# Altium footprint library Drosel.PcbLib: 92 footprints (part 1 of 6)
Each footprint in its own frame and in the unit in brackets; x right, y up, seen from the top. Pads: shape width x height; smd on the part's side, far side on the other; paste and mask are expansions set on the pad; w line width, h text height; cw(c..) or ccw(c..) is an arc to the next point about the centre after c.
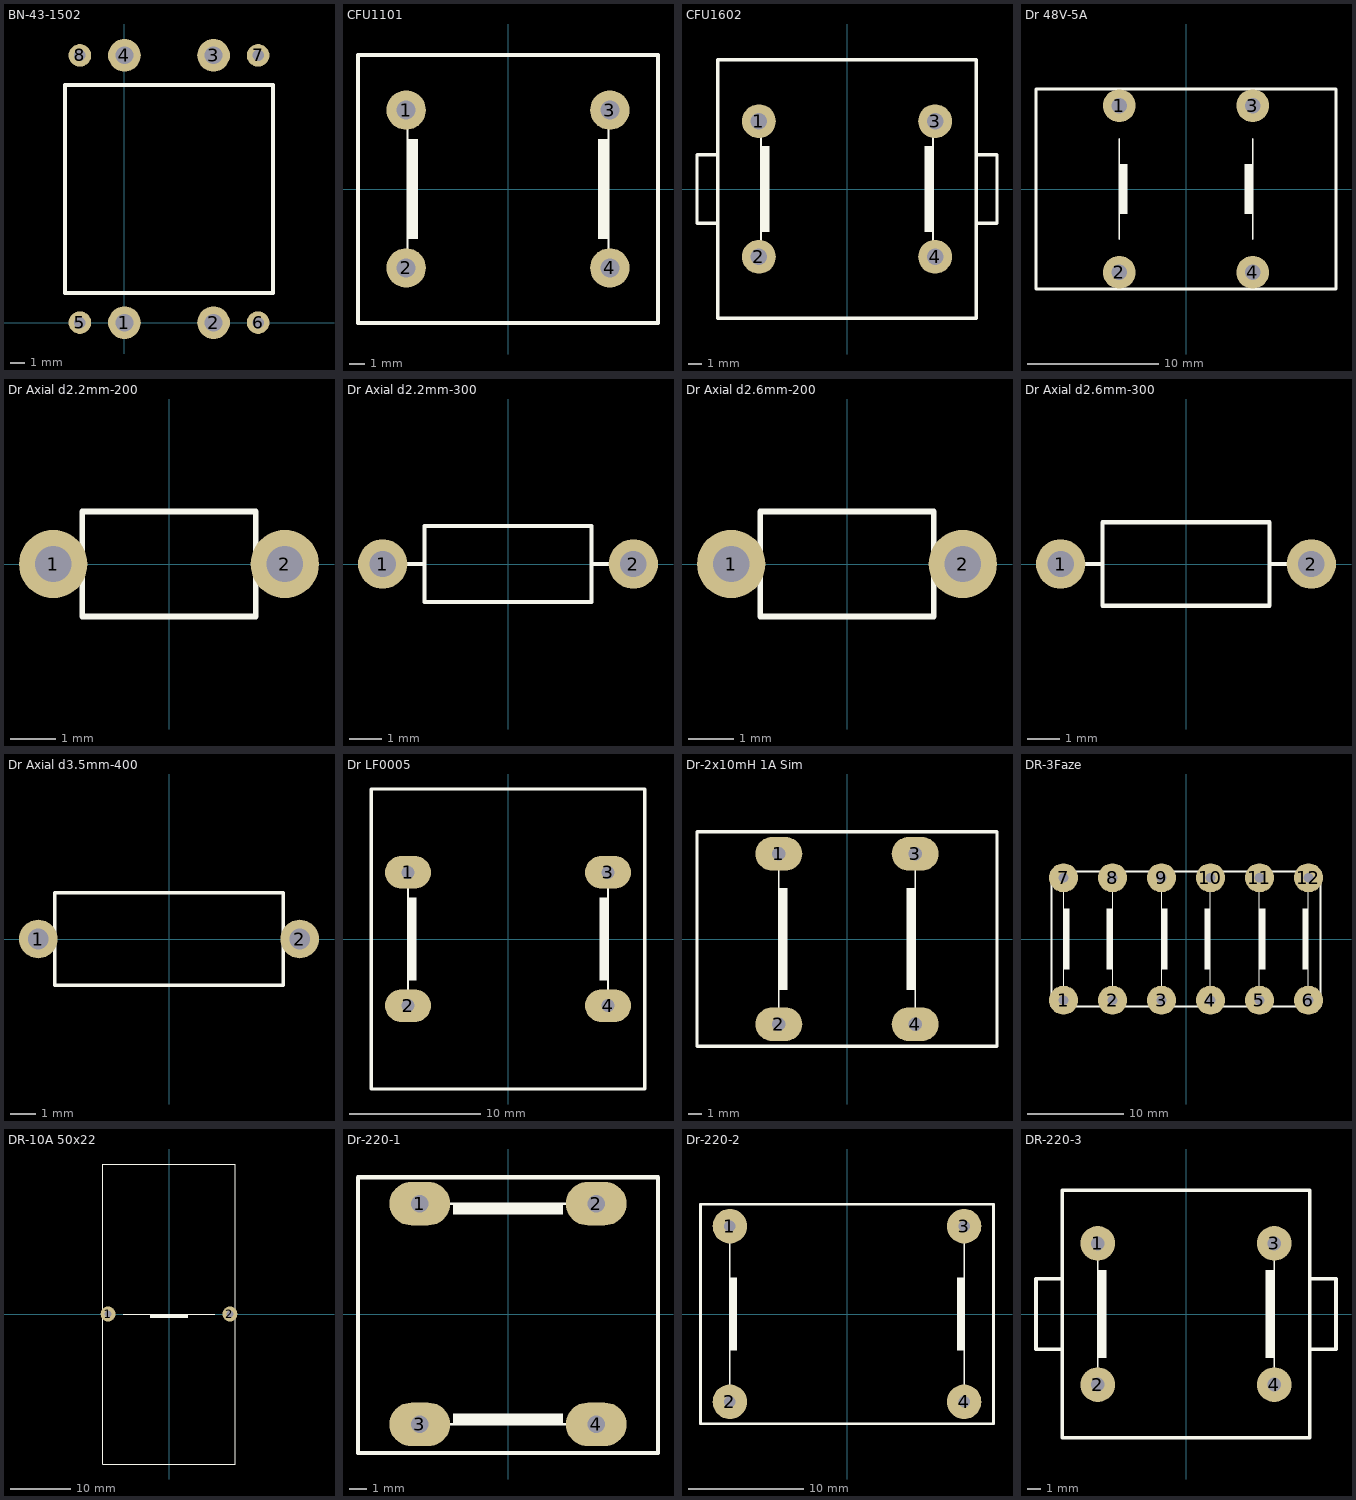
[diagram p0: the footprints below, top view; thin cyan lines are the x and y axes]

## BN-43-1502 [mm]
height 10
pads (8):
  round 2.2 hole 1.2: 1(0,0) 2(6,0) 3(6,18) 4(0,18)
  round 1.524 hole 0.762: 5(-3,0) 6(9,0) 7(9,18) 8(-3,18)
Top Overlay:
  lines w0.254: -4,2 -4,16 10,16 10,2 -4,2

## CFU1101 [mm]
pads (4):
  round 2.5 hole 1.2: 1(-6.45,5) 2(-6.45,-5) 3(6.45,5) 4(6.45,-5)
Top Overlay:
  region: 5.715,3.175 5.715,-3.175 6.35,-3.175 6.35,3.175
  region: -5.715,-3.175 -5.715,3.175 -6.35,3.175 -6.35,-3.175
  lines w0.127: -6.35,-5.08 -6.35,5.08 ; 6.35,-5.08 6.35,5.08
  lines w0.254: -9.5,-8.5 -9.5,8.5 9.5,8.5 9.5,-8.5 -9.5,-8.5

## CFU1602 [mm]
pads (4):
  round 2.5 hole 1.2: 1(-6.5,5) 2(-6.5,-5) 3(6.5,5) 4(6.5,-5)
Top Overlay:
  region: 5.715,3.175 5.715,-3.175 6.35,-3.175 6.35,3.175
  region: -5.715,-3.175 -5.715,3.175 -6.35,3.175 -6.35,-3.175
  lines w0.127: -6.35,-5.08 -6.35,5.08 ; 6.35,-5.08 6.35,5.08
  lines w0.254: -9.525,-2.54 -11.063,-2.54 -11.063,2.54 -9.525,2.54 ; 9.525,-2.54 11.062,-2.54 11.062,2.54 9.525,2.54 ; -9.525,-9.525 -9.525,9.525 9.525,9.525 9.525,-9.525 -9.525,-9.525
3D body: height 27.18, standoff -3.6, extent -11.062,-9.5 11.063,9.5

## Dr 48V-5A [mm]
pads (4):
  round 2.5 hole 1.2: 1(-5.08,6.35) 2(-5.08,-6.35) 3(5.08,6.35) 4(5.08,-6.35)
Top Overlay:
  region: 4.445,1.905 4.445,-1.905 5.08,-1.905 5.08,1.905
  region: -4.445,-1.905 -4.445,1.905 -5.08,1.905 -5.08,-1.905
  lines w0.127: -5.08,-3.81 -5.08,3.81 ; 5.08,-3.81 5.08,3.81
  lines w0.254: -11.43,-7.62 11.43,-7.62 11.43,7.62 -11.43,7.62 -11.43,-7.62
3D body: height 9, standoff 0, extent -11.441,-7.631 11.441,7.631
3D body: height 24, standoff 0, extent -11.43,-5.588 11.43,5.588

## Dr Axial d2.2mm-200 [mm]
pads (2):
  round 1.5 hole 0.8: 1(-2.54,0) 2(2.54,0)
Top Overlay:
  lines w0.127: -2.54,0 -1.905,0 ; 1.905,0 2.54,0 ; -1.905,-1.153 1.905,-1.153 1.905,1.153 -1.905,1.153 -1.905,-1.153
3D body: height 2.93, standoff -2.54, extent -2.845,-1.153 2.845,1.153

## Dr Axial d2.2mm-300 [mm]
pads (2):
  round 1.5 hole 0.8: 1(-3.81,0) 2(3.81,0)
Top Overlay:
  lines w0.127: -3.175,0 -2.54,0 ; 2.54,0 3.175,0 ; -2.54,-1.153 2.54,-1.153 2.54,1.153 -2.54,1.153 -2.54,-1.153
3D body: height 2.93, standoff -2.54, extent -4.115,-1.153 4.115,1.153

## Dr Axial d2.6mm-200 [mm]
pads (2):
  round 1.5 hole 0.8: 1(-2.54,0) 2(2.54,0)
Top Overlay:
  lines w0.127: -2.54,0 -1.905,0 ; 1.905,0 2.54,0 ; -1.905,-1.153 -1.905,1.153 1.905,1.153 1.905,-1.153 -1.905,-1.153
3D body: height 3.09, standoff -2.54, extent -2.845,-1.31 2.845,1.31

## Dr Axial d2.6mm-300 [mm]
pads (2):
  round 1.5 hole 0.8: 1(-3.81,0) 2(3.81,0)
Top Overlay:
  lines w0.127: -3.175,0 -2.54,0 ; 2.54,0 3.175,0 ; -2.54,-1.27 -2.54,1.27 2.54,1.27 2.54,-1.27 -2.54,-1.27
3D body: height 3.09, standoff -2.54, extent -4.115,-1.31 4.115,1.31

## Dr Axial d3.5mm-400 [mm]
pads (2):
  round 1.5 hole 0.8: 1(-5.08,0) 2(5.08,0)
Top Overlay:
  lines w0.127: -5.08,0 -4.445,0 ; 4.445,0 5.08,0 ; -4.445,-1.8 4.445,-1.8 4.445,1.8 -4.445,1.8 -4.445,-1.8
3D body: height 3.6, standoff -2.54, extent -5.38,-1.8 5.38,1.8

## Dr LF0005 [mm]
pads (4):
  oval 3.5x2.5 hole 1: 1(-7.62,5.08) 2(-7.62,-5.08) 3(7.62,5.08) 4(7.62,-5.08)
Top Overlay:
  region: -6.985,-3.175 -6.985,3.175 -7.62,3.175 -7.62,-3.175
  region: 6.985,3.175 6.985,-3.175 7.62,-3.175 7.62,3.175
  lines w0.127: -7.62,-5.08 -7.62,5.08 ; 7.62,-5.08 7.62,5.08
  lines w0.254: -10.414,-11.43 -10.414,11.43 10.414,11.43 10.414,-11.43 -10.414,-11.43

## Dr-2x10mH 1A Sim [mm]
pads (4):
  oval 3.5x2.5 hole 1: 1(-5.08,6.35) 2(-5.08,-6.35) 3(5.08,6.35) 4(5.08,-6.35)
Top Overlay:
  region: -4.445,-3.81 -4.445,3.81 -5.08,3.81 -5.08,-3.81
  region: 4.445,3.81 4.445,-3.81 5.08,-3.81 5.08,3.81
  lines w0.127: -5.08,-6.35 -5.08,6.35 ; 5.08,-6.35 5.08,6.35
  lines w0.254: -11.176,-8.001 -11.176,8.001 11.176,8.001 11.176,-8.001 -1.27,-8.001 -11.176,-8.001

## DR-3Faze [mm]
pads (12):
  round 3 hole 1: 1(-12.7,-6.35) 2(-7.62,-6.35) 3(-2.54,-6.35) 4(2.54,-6.35) 5(7.62,-6.35) 6(12.7,-6.35) 7(-12.7,6.35) 8(-7.62,6.35) 9(-2.54,6.35) 10(2.54,6.35) 11(7.62,6.35) 12(12.7,6.35)
Top Overlay:
  region: -12.065,-3.175 -12.065,3.175 -12.7,3.175 -12.7,-3.175
  region: -8.255,3.175 -8.255,-3.175 -7.62,-3.175 -7.62,3.175
  region: -1.905,-3.175 -1.905,3.175 -2.54,3.175 -2.54,-3.175
  region: 1.905,3.175 1.905,-3.175 2.54,-3.175 2.54,3.175
  region: 8.255,-3.175 8.255,3.175 7.62,3.175 7.62,-3.175
  region: 12.065,3.175 12.065,-3.175 12.7,-3.175 12.7,3.175
  lines w0.127: -12.7,-6.35 -12.7,6.35 ; -7.62,-6.35 -7.62,6.35 ; -2.54,-6.35 -2.54,6.35 ; 2.54,-6.35 2.54,6.35 ; 7.62,-6.35 7.62,6.35 ; 12.7,-6.35 12.7,6.35
  lines w0.2: -13.97,-6.985 -13.97,6.985 13.97,6.985 13.97,-6.985 -13.97,-6.985

## DR-10A 50x22 [mm]
pads (2):
  round 2.5 hole 1.2: 1(-10.16,0) 2(10.16,0)
Top Overlay:
  rectangle: -3.175,-0.635 3.175,0
  lines w0.127: -7.62,0 7.62,0
  lines w0.2: -11,-25 11,-25 11,25 -11,25 -11,-25

## Dr-220-1 [mm]
pads (4):
  oval 3.5x2.5 hole 1: 1(-5.08,6.35) 2(5.08,6.35) 3(-5.08,-6.35) 4(5.08,-6.35)
Top Overlay:
  region: 3.175,-5.715 -3.175,-5.715 -3.175,-6.35 3.175,-6.35
  rectangle: -3.175,5.715 3.175,6.35
  lines w0.127: -5.08,-6.35 5.08,-6.35 ; -5.08,6.35 5.08,6.35
  lines w0.254: -8.636,-8.001 -8.636,7.874 8.636,7.874 8.636,-8.001 0,-8.001 -8.636,-8.001

## Dr-220-2 [mm]
pads (4):
  round 3 hole 1: 1(-10.16,7.62) 2(-10.16,-7.62) 3(10.16,7.62) 4(10.16,-7.62)
Top Overlay:
  region: 10.16,-3.175 10.16,3.175 9.525,3.175 9.525,-3.175
  region: -9.525,-3.175 -9.525,3.175 -10.16,3.175 -10.16,-3.175
  lines w0.127: -10.16,-7.62 -10.16,7.62 ; 10.16,-7.62 10.16,7.62
  lines w0.254: -12.7,-9.525 12.7,-9.525 12.7,9.525 -12.7,9.525 -12.7,-9.525

## DR-220-3 [mm]
pads (4):
  round 2.5 hole 1: 1(-6.35,5.08) 2(-6.35,-5.08) 3(6.35,5.08) 4(6.35,-5.08)
Top Overlay:
  region: -5.715,-3.175 -5.715,3.175 -6.35,3.175 -6.35,-3.175
  region: 5.715,3.175 5.715,-3.175 6.35,-3.175 6.35,3.175
  lines w0.127: -6.35,-5.08 -6.35,5.08 ; 6.35,-5.08 6.35,5.08
  lines w0.254: -8.89,-2.54 -10.795,-2.54 -10.795,2.54 ; -8.89,2.54 -9.525,2.54 -10.795,2.54 ; 8.89,-2.54 10.795,-2.54 10.795,2.54 8.89,2.54 ; -10.795,2.54 -10.16,2.54 -10.795,2.54 ; -8.89,-8.89 8.89,-8.89 8.89,8.89 -8.89,8.89 -8.89,-8.89